# Altium footprint library EFR32MG12_BG125.PcbLib: 1 footprints
Each footprint in its own frame and in the unit in brackets; x right, y up, seen from the top. Pads: shape width x height; smd on the part's side, far side on the other; paste and mask are expansions set on the pad; w line width, h text height; cw(c..) or ccw(c..) is an arc to the next point about the centre after c.
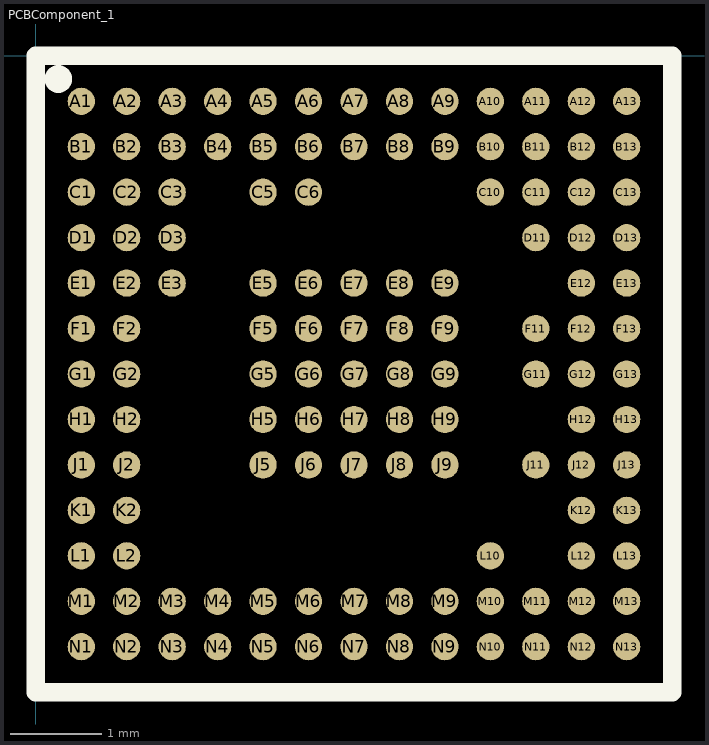
[diagram p0: the footprint, top view; thin cyan lines are the x and y axes]

## PCBComponent_1 [mm]
pads (125):
  round 0.3 smd: A1(0.5,-0.5) A2(1,-0.5) A3(1.5,-0.5) A4(2,-0.5) A5(2.5,-0.5) A6(3,-0.5) A7(3.5,-0.5) A8(4,-0.5) A9(4.5,-0.5) A10(5,-0.5) A11(5.5,-0.5) A12(6,-0.5) A13(6.5,-0.5) B1(0.5,-1) B2(1,-1) B3(1.5,-1) B4(2,-1) B5(2.5,-1) B6(3,-1) B7(3.5,-1) B8(4,-1) B9(4.5,-1) B10(5,-1) B11(5.5,-1) B12(6,-1) B13(6.5,-1) C1(0.5,-1.5) C2(1,-1.5) C3(1.5,-1.5) C5(2.5,-1.5) C6(3,-1.5) C10(5,-1.5) C11(5.5,-1.5) C12(6,-1.5) C13(6.5,-1.5) D1(0.5,-2) D2(1,-2) D3(1.5,-2) D11(5.5,-2) D12(6,-2) D13(6.5,-2) E1(0.5,-2.5) E2(1,-2.5) E3(1.5,-2.5) E5(2.5,-2.5) E6(3,-2.5) E7(3.5,-2.5) E8(4,-2.5) E9(4.5,-2.5) E12(6,-2.5) E13(6.5,-2.5) F1(0.5,-3) F2(1,-3) F5(2.5,-3) F6(3,-3) F7(3.5,-3) F8(4,-3) F9(4.5,-3) F11(5.5,-3) F12(6,-3) F13(6.5,-3) G1(0.5,-3.5) G2(1,-3.5) G5(2.5,-3.5) G6(3,-3.5) G7(3.5,-3.5) G8(4,-3.5) G9(4.5,-3.5) G11(5.5,-3.5) G12(6,-3.5) G13(6.5,-3.5) H1(0.5,-4) H2(1,-4) H5(2.5,-4) H6(3,-4) H7(3.5,-4) H8(4,-4) H9(4.5,-4) H12(6,-4) H13(6.5,-4) J1(0.5,-4.5) J2(1,-4.5) J5(2.5,-4.5) J6(3,-4.5) J7(3.5,-4.5) J8(4,-4.5) J9(4.5,-4.5) J11(5.5,-4.5) J12(6,-4.5) J13(6.5,-4.5) K1(0.5,-5) K2(1,-5) K12(6,-5) K13(6.5,-5) L1(0.5,-5.5) L2(1,-5.5) L10(5,-5.5) L12(6,-5.5) L13(6.5,-5.5) M1(0.5,-6) M2(1,-6) M3(1.5,-6) M4(2,-6) M5(2.5,-6) M6(3,-6) M7(3.5,-6) M8(4,-6) M9(4.5,-6) M10(5,-6) M11(5.5,-6) M12(6,-6) M13(6.5,-6) N1(0.5,-6.5) N2(1,-6.5) N3(1.5,-6.5) N4(2,-6.5) N5(2.5,-6.5) N6(3,-6.5) N7(3.5,-6.5) N8(4,-6.5) N9(4.5,-6.5) N10(5,-6.5) N11(5.5,-6.5) N12(6,-6.5) N13(6.5,-6.5)
Top Overlay:
  circle w0.254: c0.248,-0.255 r0.025
  lines w0.2: 0,-7 1,-7 3,-7 5,-7 7,-7 7,-6 7,-4 7,-2 7,0 0,0 0,-1 0,-3 0,-5 0,-7